# EAGLE library part HD-F107 (library display-hp)
LED DISPLAY + - 1/2 character, decimal point right
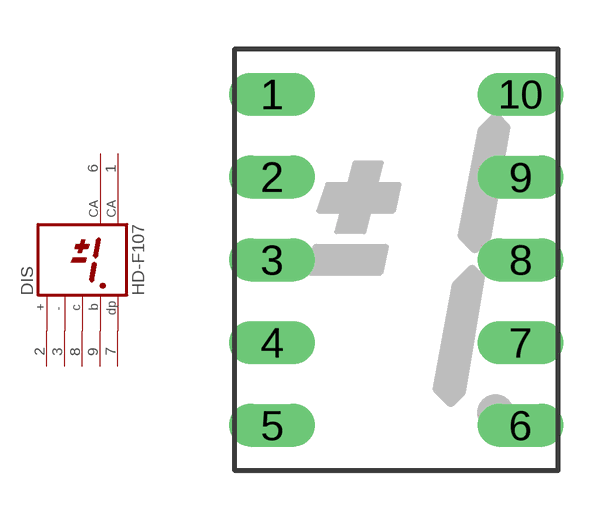
[diagram p17: symbol with the pads of HDSP-G; footprint HDSP-G]

Designator prefix DIS

## HD-F107 (OC_FARNELL: unknown; OC_NEWARK: unknown)  [HDSP-G]
1  CA  pas
2  +  pas
3  -  pas
6  CA  pas
7  DP  pas
8  C  pas
9  B  pas

## Footprint HDSP-G (pad centres in mm)
LED DISPLAY 10-mm + - 1/2 character, decimal point right
drill 0.813 long: 1 -3.81,5.08; 2 -3.81,2.54; 3 -3.81,0; 4 -3.81,-2.54; 5 -3.81,-5.08; 6 3.81,-5.08; 7 3.81,-2.54; 8 3.81,0; 9 3.81,2.54; 10 3.81,5.08